# EAGLE library part 632723300011 (library CONNECTORs)
USB-C (USB TYPE-C) USB 3.2 Gen 2 (USB 3.1 Gen 2, Superspeed + (USB 3.1)) Receptacle Connector 24 Position Surface Mount, Right Angle; Through Hole
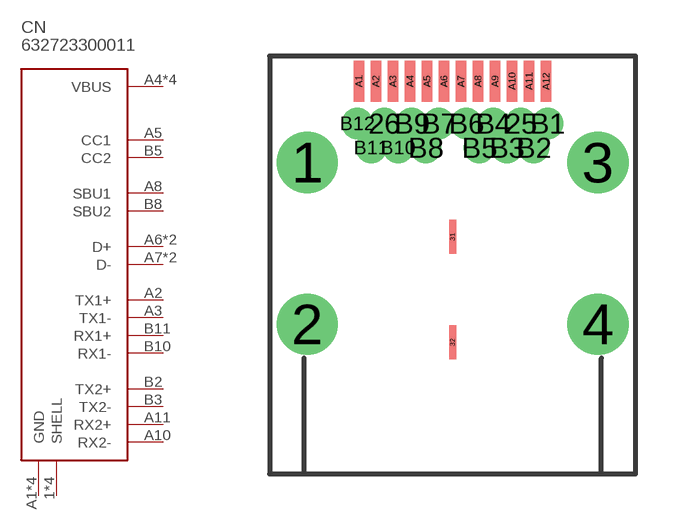
[diagram p76: symbol with the pads of CONN_632723X0001_WRE; footprint CONN_632723X0001_WRE]

Designator prefix CN

## 632723300011 (DIGIKEY: 732-9618-1-ND; HEIGHT: 3; PRICE_PER: 3.81; VALUE: 632723300011)  [CONN_632723X0001_WRE]
1  SHELL
2  SHELL
3  SHELL
4  SHELL
A1  GND
A2  TX1+
A3  TX1-
A4  VBUS
A5  CC1
A6  D+
A7  D-
A8  SBU1
A9  VBUS
A10  RX2-
A11  RX2+
A12  GND
B1  GND
B2  TX2+
B3  TX2-
B4  VBUS
B5  CC2
B6  D+
B7  D-
B8  SBU2
B9  VBUS
B10  RX1-
B11  RX1+
B12  GND

## Footprint CONN_632723X0001_WRE (pad centres in mm)
drill 1.2: 1 -4.27,3.25; 2 -4.27,-1.5; 3 4.27,3.25; 4 4.27,-1.5
drill 0.406 pad 0.66: 25 2.007,4.394; 26 -2.007,4.394; B1 2.794,4.394; B2 2.388,3.683; B3 1.6,3.683; B4 1.194,4.394; B5 0.787,3.683; B6 0.406,4.394; B7 -0.406,4.394; B8 -0.787,3.683; B9 -1.194,4.394; B10 -1.6,3.683; B11 -2.388,3.683; B12 -2.794,4.394
smd 0.203 x 0.991: 31 0,1.068; 32 0,-2.032
smd 0.305 x 1.194: A1 -2.75,5.635; A2 -2.25,5.635; A3 -1.75,5.635; A4 -1.25,5.635; A5 -0.75,5.635; A6 -0.25,5.635; A7 0.25,5.635; A8 0.75,5.635; A9 1.25,5.635; A10 1.75,5.635; A11 2.25,5.635; A12 2.75,5.635